# Altium footprint library SW_PTS636_SM43J_SMTR_LFS.PcbLib: 1 footprints
Each footprint in its own frame and in the unit in brackets; x right, y up, seen from the top. Pads: shape width x height; smd on the part's side, far side on the other; paste and mask are expansions set on the pad; w line width, h text height; cw(c..) or ccw(c..) is an arc to the next point about the centre after c.
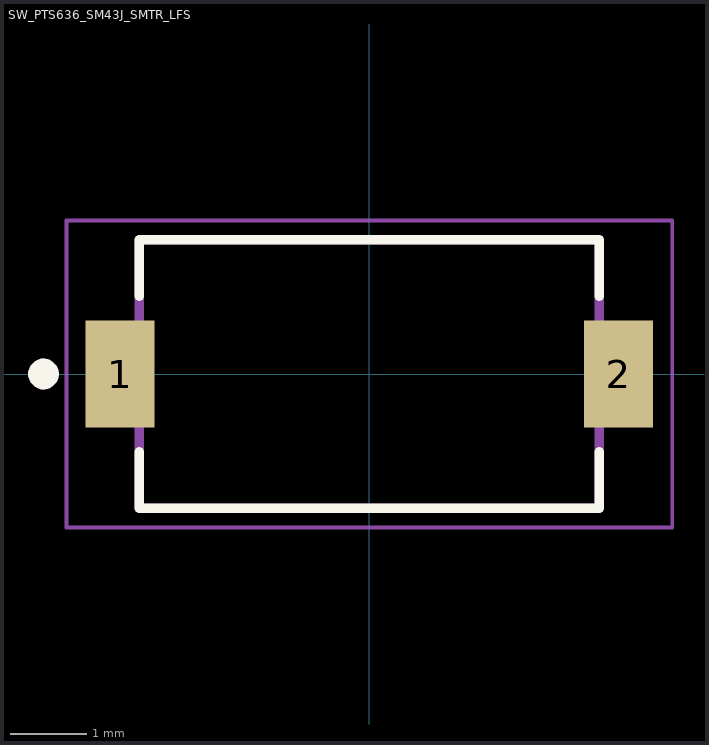
[diagram p0: the footprint, top view; thin cyan lines are the x and y axes]

## SW_PTS636_SM43J_SMTR_LFS [mm]
pads (2):
  rect 0.9x1.4 smd: 1(-3.25,0) 2(3.25,0)
Top Overlay:
  circle w0.2: c-4.25,0 r0.1
  lines w0.127: -3,-1.014 -3,-1.75 3,-1.75 3,-1.014 ; -3,1.014 -3,1.75 3,1.75 3,1.014
Mechanical 13:
  circle w0.2: c-4.25,0 r0.1
  lines w0.127: -3,-1.75 -3,1.75 3,1.75 3,-1.75 -3,-1.75
Mechanical 15:
  lines w0.05: -3.95,-2 -3.95,2 3.95,2 3.95,-2 -3.95,-2
3D body "PTS636 SM43J SMTR LFS--3DModel-STEP-56544.STEP": height 4.3, standoff 0, extent -3.55,-1.75 3.55,1.75